# Altium footprint library 686 1xx 141 22.PcbLib: 16 footprints
Each footprint in its own frame and in the unit in brackets; x right, y up, seen from the top. Pads: shape width x height; smd on the part's side, far side on the other; paste and mask are expansions set on the pad; w line width, h text height; cw(c..) or ccw(c..) is an arc to the next point about the centre after c.
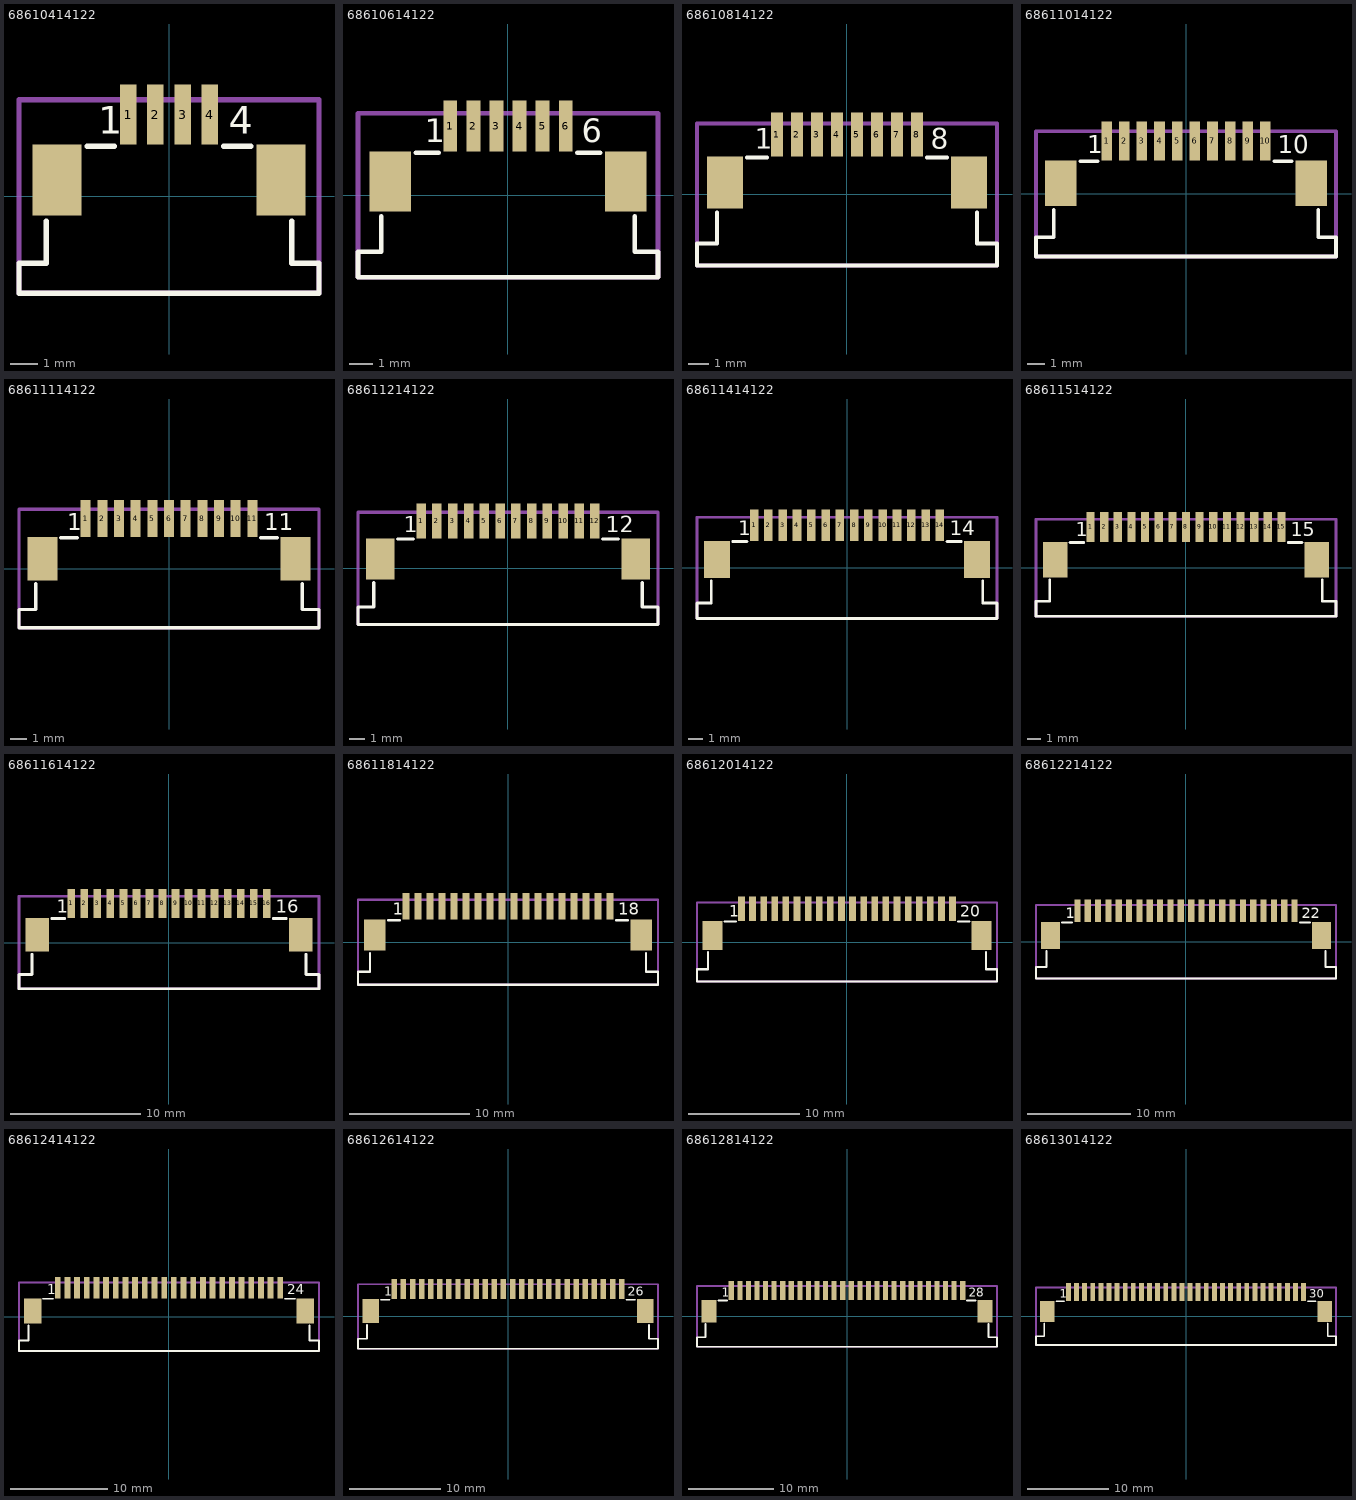
[diagram p0: the footprints below, top view; thin cyan lines are the x and y axes]

## 68610414122 [mm] "1.00 mm SMT ZIF Horizontal Top Contact, 4p"
height 2.95
pads (6):
  rect 0.6x2.2 smd: 1(-1.5,3) 2(-0.5,3) 3(0.5,3) 4(1.5,3)
  rect 1.8x2.6 smd: ""(-4.1,0.6) ""(4.1,0.6)
Top Overlay:
  lines w0.2: -4.5,-0.9 -4.5,-2.45 -5.5,-2.45 -5.5,-3.55 5.5,-3.55 5.5,-2.45 4.5,-2.45 4.5,-0.9 ; -3,1.85 -2,1.85 ; 2,1.85 3,1.85
  text "1" at -2.6,2.3 h1.02
  text "4" at 2.2,2.3 h1.02
Mechanical 13:
  lines w0.2: -5.5,-3.55 5.5,-3.55 5.5,3.55 -5.5,3.55 -5.5,-3.55
3D body "68610414122.stp": height 3.05, standoff 0.05, extent -5.5,-3.55 5.5,3.55

## 68610614122 [mm] "1.00 mm SMT ZIF Horizontal Top Contact, 6p"
height 2.95
pads (8):
  rect 0.6x2.2 smd: 1(-2.5,3) 2(-1.5,3) 3(-0.5,3) 4(0.5,3) 5(1.5,3) 6(2.5,3)
  rect 1.8x2.6 smd: ""(-5.1,0.6) ""(5.1,0.6)
Top Overlay:
  lines w0.2: -5.5,-0.9 -5.5,-2.45 -6.5,-2.45 -6.5,-3.55 6.5,-3.55 6.5,-2.45 5.5,-2.45 5.5,-0.9 ; -4,1.85 -3,1.85 ; 3,1.85 4,1.85
  text "1" at -3.6,2.3 h1.02
  text "6" at 3.2,2.3 h1.02
Mechanical 13:
  lines w0.2: -6.5,-3.55 6.5,-3.55 6.5,3.55 -6.5,3.55 -6.5,-3.55
3D body "68610614122.stp": height 3.05, standoff 0.05, extent -6.5,-3.55 6.5,3.55

## 68610814122 [mm] "1.00 mm SMT ZIF Horizontal Top Contact, 8p"
height 2.95
pads (10):
  rect 0.6x2.2 smd: 1(-3.5,3) 2(-2.5,3) 3(-1.5,3) 4(-0.5,3) 5(0.5,3) 6(1.5,3) 7(2.5,3) 8(3.5,3)
  rect 1.8x2.6 smd: ""(-6.1,0.6) ""(6.1,0.6)
Top Overlay:
  lines w0.2: -7.5,-3.55 -7.5,-2.45 -6.5,-2.45 -6.5,-0.9 ; -7.5,-3.55 7.5,-3.55 7.5,-2.45 6.5,-2.45 6.5,-0.9 ; -5,1.85 -4,1.85 ; 4,1.85 5,1.85
  text "8" at 4.2,2.3 h1.02
  text "1" at -4.6,2.3 h1.02
Mechanical 13:
  lines w0.2: -7.5,-3.55 7.5,-3.55 7.5,3.55 -7.5,3.55 -7.5,-3.55
3D body "68610814122.stp": height 3.05, standoff 0.05, extent -7.5,-3.55 7.5,3.55

## 68611014122 [mm] "1.00 mm SMT ZIF Horizontal Top Contact, 10p"
height 2.95
pads (12):
  rect 0.6x2.2 smd: 1(-4.5,3) 2(-3.5,3) 3(-2.5,3) 4(-1.5,3) 5(-0.5,3) 6(0.5,3) 7(1.5,3) 8(2.5,3) 9(3.5,3) 10(4.5,3)
  rect 1.8x2.6 smd: ""(-7.1,0.6) ""(7.1,0.6)
Top Overlay:
  lines w0.2: -7.5,-0.9 -7.5,-2.45 -8.5,-2.45 -8.5,-3.55 8.5,-3.55 8.5,-2.45 7.5,-2.45 7.5,-0.9 ; -6,1.85 -5,1.85 ; 5,1.85 6,1.85
  text "10" at 5.2,2.3 h1.02
  text "1" at -5.6,2.3 h1.02
Mechanical 13:
  lines w0.2: -8.5,-3.55 -8.5,3.55 8.5,3.55 8.5,-3.55 -8.5,-3.55
3D body "68611014122.stp": height 3.05, standoff 0.05, extent -8.5,-3.55 8.5,3.55

## 68611114122 [mm] "1.00 mm SMT ZIF Horizontal Top Contact, 11p"
height 2.95
pads (13):
  rect 0.6x2.2 smd: 1(-5,3) 2(-4,3) 3(-3,3) 4(-2,3) 5(-1,3) 6(0,3) 7(1,3) 8(2,3) 9(3,3) 10(4,3) 11(5,3)
  rect 1.8x2.6 smd: ""(-7.6,0.6) ""(7.6,0.6)
Top Overlay:
  lines w0.2: -8,-0.9 -8,-2.45 -9,-2.45 -9,-3.55 9,-3.55 9,-2.45 8,-2.45 8,-0.9 ; -6.5,1.85 -5.5,1.85 ; 5.5,1.85 6.5,1.85
  text "11" at 5.7,2.3 h1.02
  text "1" at -6.1,2.3 h1.02
Mechanical 13:
  lines w0.2: -9,-3.55 -9,3.55 9,3.55 9,-3.55 -9,-3.55
3D body "68611114122.stp": height 3.05, standoff 0.05, extent -9,-3.55 9,3.55

## 68611214122 [mm] "1.00 mm SMT ZIF Horizontal Top Contact, 12p"
height 2.95
pads (14):
  rect 0.6x2.2 smd: 1(-5.5,3) 2(-4.5,3) 3(-3.5,3) 4(-2.5,3) 5(-1.5,3) 6(-0.5,3) 7(0.5,3) 8(1.5,3) 9(2.5,3) 10(3.5,3) 11(4.5,3) 12(5.5,3)
  rect 1.8x2.6 smd: ""(-8.1,0.6) ""(8.1,0.6)
Top Overlay:
  lines w0.2: -8.5,-0.9 -8.5,-2.45 -9.5,-2.45 -9.5,-3.55 9.5,-3.55 9.5,-2.45 8.5,-2.45 8.5,-0.9 ; -7,1.85 -6,1.85 ; 6,1.85 7,1.85
  text "12" at 6.2,2.3 h1.02
  text "1" at -6.6,2.3 h1.02
Mechanical 13:
  lines w0.2: -9.5,-3.55 -9.5,3.55 9.5,3.55 9.5,-3.55 -9.5,-3.55
3D body "68611214122.stp": height 3.05, standoff 0.05, extent -9.5,-3.55 9.5,3.55

## 68611414122 [mm] "1.00 mm SMT ZIF Horizontal Top Contact, 14p"
height 2.95
pads (16):
  rect 0.6x2.2 smd: 1(-6.5,3) 2(-5.5,3) 3(-4.5,3) 4(-3.5,3) 5(-2.5,3) 6(-1.5,3) 7(-0.5,3) 8(0.5,3) 9(1.5,3) 10(2.5,3) 11(3.5,3) 12(4.5,3) 13(5.5,3) 14(6.5,3)
  rect 1.8x2.6 smd: ""(-9.1,0.6) ""(9.1,0.6)
Top Overlay:
  lines w0.2: -9.5,-0.9 -9.5,-2.45 -10.5,-2.45 -10.5,-3.55 10.5,-3.55 10.5,-2.45 9.5,-2.45 9.5,-0.9 ; -8,1.85 -7,1.85 ; 7,1.85 8,1.85
  text "14" at 7.2,2.3 h1.02
  text "1" at -7.6,2.3 h1.02
Mechanical 13:
  lines w0.2: -10.5,-3.55 -10.5,3.55 10.5,3.55 10.5,-3.55 -10.5,-3.55
3D body "68611414122.stp": height 3.05, standoff 0.05, extent -10.5,-3.55 10.5,3.55

## 68611514122 [mm] "1.00 mm SMT ZIF Horizontal Top Contact, 15p"
height 2.95
pads (17):
  rect 0.6x2.2 smd: 1(-7,3) 2(-6,3) 3(-5,3) 4(-4,3) 5(-3,3) 6(-2,3) 7(-1,3) 8(0,3) 9(1,3) 10(2,3) 11(3,3) 12(4,3) 13(5,3) 14(6,3) 15(7,3)
  rect 1.8x2.6 smd: ""(-9.6,0.6) ""(9.6,0.6)
Top Overlay:
  lines w0.2: -10,-0.9 -10,-2.45 -11,-2.45 -11,-3.55 11,-3.55 11,-2.45 10,-2.45 10,-0.9 ; -8.5,1.85 -7.5,1.85 ; 7.5,1.85 8.5,1.85
  text "1" at -8.1,2.3 h1.02
  text "15" at 7.7,2.3 h1.02
Mechanical 13:
  lines w0.2: -11,-3.55 -11,3.55 11,3.55 11,-3.55 -11,-3.55
3D body "68611514122.stp": height 3.05, standoff 0.05, extent -11,-3.55 11,3.55

## 68611614122 [mm] "1.00 mm SMT ZIF Horizontal Top Contact, 16p"
height 2.95
pads (18):
  rect 0.6x2.2 smd: 1(-7.5,3) 2(-6.5,3) 3(-5.5,3) 4(-4.5,3) 5(-3.5,3) 6(-2.5,3) 7(-1.5,3) 8(-0.5,3) 9(0.5,3) 10(1.5,3) 11(2.5,3) 12(3.5,3) 13(4.5,3) 14(5.5,3) 15(6.5,3) 16(7.5,3)
  rect 1.8x2.6 smd: ""(-10.1,0.6) ""(10.1,0.6)
Top Overlay:
  lines w0.2: -10.5,-0.9 -10.5,-2.45 -11.5,-2.45 -11.5,-3.55 11.5,-3.55 11.5,-2.45 10.5,-2.45 10.5,-0.9 ; -9,1.85 -8,1.85 ; 8,1.85 9,1.85
  text "1" at -8.6,2.3 h1.02
  text "16" at 8.2,2.3 h1.02
Mechanical 13:
  lines w0.2: -11.5,-3.55 -11.5,3.55 11.5,3.55 11.5,-3.55 -11.5,-3.55
3D body "68611614122.stp": height 3.05, standoff 0.05, extent -11.5,-3.55 11.5,3.55

## 68611814122 [mm] "1.00 mm SMT ZIF Horizontal Top Contact, 18p"
height 2.95
pads (20):
  rect 0.6x2.2 smd: 1(-8.5,3) 2(-7.5,3) 3(-6.5,3) 4(-5.5,3) 5(-4.5,3) 6(-3.5,3) 7(-2.5,3) 8(-1.5,3) 9(-0.5,3) 10(0.5,3) 11(1.5,3) 12(2.5,3) 13(3.5,3) 14(4.5,3) 15(5.5,3) 16(6.5,3) 17(7.5,3) 18(8.5,3)
  rect 1.8x2.6 smd: ""(-11.1,0.6) ""(11.1,0.6)
Top Overlay:
  lines w0.2: -12.5,-3.55 -12.5,-2.45 -11.5,-2.45 -11.5,-0.9 ; -12.5,-3.55 12.5,-3.55 12.5,-2.45 11.5,-2.45 11.5,-0.9 ; -10,1.85 -9,1.85 ; 9,1.85 10,1.85
  text "18" at 9.2,2.3 h1.02
  text "1" at -9.6,2.3 h1.02
Mechanical 13:
  lines w0.2: -12.5,-3.55 12.5,-3.55 12.5,3.55 -12.5,3.55 -12.5,-3.55
3D body "68611814122.stp": height 3.05, standoff 0.05, extent -12.5,-3.55 12.5,3.55

## 68612014122 [mm] "1.00 mm SMT ZIF Horizontal Top Contact, 20p"
height 2.95
pads (22):
  rect 0.6x2.2 smd: 1(-9.5,3) 2(-8.5,3) 3(-7.5,3) 4(-6.5,3) 5(-5.5,3) 6(-4.5,3) 7(-3.5,3) 8(-2.5,3) 9(-1.5,3) 10(-0.5,3) 11(0.5,3) 12(1.5,3) 13(2.5,3) 14(3.5,3) 15(4.5,3) 16(5.5,3) 17(6.5,3) 18(7.5,3) 19(8.5,3) 20(9.5,3)
  rect 1.8x2.6 smd: ""(-12.1,0.6) ""(12.1,0.6)
Top Overlay:
  lines w0.2: -12.5,-0.9 -12.5,-2.45 -13.5,-2.45 -13.5,-3.55 13.5,-3.55 13.5,-2.45 12.5,-2.45 12.5,-0.9 ; -11,1.85 -10,1.85 ; 10,1.85 11,1.85
  text "1" at -10.6,2.3 h1.02
  text "20" at 10.2,2.3 h1.02
Mechanical 13:
  lines w0.2: -13.5,-3.55 -13.5,3.55 13.5,3.55 13.5,-3.55 -13.5,-3.55
3D body "68612014122.stp": height 3.05, standoff 0.05, extent -13.5,-3.55 13.5,3.55

## 68612214122 [mm] "1.00 mm SMT ZIF Horizontal Top Contact, 22p"
height 2.95
pads (24):
  rect 0.6x2.2 smd: 1(-10.5,3) 2(-9.5,3) 3(-8.5,3) 4(-7.5,3) 5(-6.5,3) 6(-5.5,3) 7(-4.5,3) 8(-3.5,3) 9(-2.5,3) 10(-1.5,3) 11(-0.5,3) 12(0.5,3) 13(1.5,3) 14(2.5,3) 15(3.5,3) 16(4.5,3) 17(5.5,3) 18(6.5,3) 19(7.5,3) 20(8.5,3) 21(9.5,3) 22(10.5,3)
  rect 1.8x2.6 smd: ""(-13.1,0.6) ""(13.1,0.6)
Top Overlay:
  lines w0.2: -13.5,-0.9 -13.5,-2.45 -14.5,-2.45 -14.5,-3.55 14.5,-3.55 14.5,-2.45 13.5,-2.45 13.5,-0.9 ; -12,1.85 -11,1.85 ; 11,1.85 12,1.85
  text "22" at 11.2,2.3 h1.02
  text "1" at -11.6,2.3 h1.02
Mechanical 13:
  lines w0.2: -14.5,-3.55 14.5,-3.55 14.5,3.55 -14.5,3.55 -14.5,-3.55
3D body "68612214122.stp": height 3.05, standoff 0.05, extent -14.5,-3.55 14.5,3.55

## 68612414122 [mm] "1.00 mm SMT ZIF Horizontal Top Contact, 24p"
height 2.95
pads (26):
  rect 0.6x2.2 smd: 1(-11.5,3) 2(-10.5,3) 3(-9.5,3) 4(-8.5,3) 5(-7.5,3) 6(-6.5,3) 7(-5.5,3) 8(-4.5,3) 9(-3.5,3) 10(-2.5,3) 11(-1.5,3) 12(-0.5,3) 13(0.5,3) 14(1.5,3) 15(2.5,3) 16(3.5,3) 17(4.5,3) 18(5.5,3) 19(6.5,3) 20(7.5,3) 21(8.5,3) 22(9.5,3) 23(10.5,3) 24(11.5,3)
  rect 1.8x2.6 smd: ""(-14.1,0.6) ""(14.1,0.6)
Top Overlay:
  lines w0.2: -14.5,-0.9 -14.5,-2.45 -15.5,-2.45 -15.5,-3.55 15.5,-3.55 15.5,-2.45 14.5,-2.45 14.5,-0.9 ; -13,1.85 -12,1.85 ; 12,1.85 13,1.85
  text "24" at 12.2,2.3 h1.02
  text "1" at -12.6,2.3 h1.02
Mechanical 13:
  lines w0.2: -15.5,-3.55 -15.5,3.55 15.5,3.55 15.5,-3.55 -15.5,-3.55
3D body "68612414122.stp": height 3.05, standoff 0.05, extent -15.5,-3.55 15.5,3.55

## 68612614122 [mm] "1.00 mm SMT ZIF Horizontal Top Contact, 26p"
height 2.95
pads (28):
  rect 0.6x2.2 smd: 1(-12.5,3) 2(-11.5,3) 3(-10.5,3) 4(-9.5,3) 5(-8.5,3) 6(-7.5,3) 7(-6.5,3) 8(-5.5,3) 9(-4.5,3) 10(-3.5,3) 11(-2.5,3) 12(-1.5,3) 13(-0.5,3) 14(0.5,3) 15(1.5,3) 16(2.5,3) 17(3.5,3) 18(4.5,3) 19(5.5,3) 20(6.5,3) 21(7.5,3) 22(8.5,3) 23(9.5,3) 24(10.5,3) 25(11.5,3) 26(12.5,3)
  rect 1.8x2.6 smd: ""(-15.1,0.6) ""(15.1,0.6)
Top Overlay:
  lines w0.2: -15.5,-0.9 -15.5,-2.45 -16.5,-2.45 -16.5,-3.55 16.5,-3.55 16.5,-2.45 15.5,-2.45 15.5,-0.9 ; -14,1.85 -13,1.85 ; 13,1.85 14,1.85
  text "1" at -13.6,2.3 h1.02
  text "26" at 13.2,2.3 h1.02
Mechanical 13:
  lines w0.2: -16.5,-3.55 16.5,-3.55 16.5,3.55 -16.5,3.55 -16.5,-3.55
3D body "68612614122.stp": height 3.05, standoff 0.05, extent -16.5,-3.55 16.5,3.55

## 68612814122 [mm] "1.00 mm SMT ZIF Horizontal Top Contact, 28p"
height 2.95
pads (30):
  rect 0.6x2.2 smd: 1(-13.5,3) 2(-12.5,3) 3(-11.5,3) 4(-10.5,3) 5(-9.5,3) 6(-8.5,3) 7(-7.5,3) 8(-6.5,3) 9(-5.5,3) 10(-4.5,3) 11(-3.5,3) 12(-2.5,3) 13(-1.5,3) 14(-0.5,3) 15(0.5,3) 16(1.5,3) 17(2.5,3) 18(3.5,3) 19(4.5,3) 20(5.5,3) 21(6.5,3) 22(7.5,3) 23(8.5,3) 24(9.5,3) 25(10.5,3) 26(11.5,3) 27(12.5,3) 28(13.5,3)
  rect 1.8x2.6 smd: ""(-16.1,0.6) ""(16.1,0.6)
Top Overlay:
  lines w0.2: -16.5,-0.9 -16.5,-2.45 -17.5,-2.45 -17.5,-3.55 17.5,-3.55 17.5,-2.45 16.5,-2.45 16.5,-0.9 ; -15,1.85 -14,1.85 ; 14,1.85 15,1.85
  text "28" at 14.2,2.3 h1.02
  text "1" at -14.6,2.3 h1.02
Mechanical 13:
  lines w0.2: -17.5,-3.55 -17.5,3.55 17.5,3.55 17.5,-3.55 -17.5,-3.55
3D body "68612814122.stp": height 3.05, standoff 0.05, extent -17.5,-3.55 17.5,3.55

## 68613014122 [mm] "1.00 mm SMT ZIF Horizontal Top Contact, 30p"
height 2.95
pads (32):
  rect 0.6x2.2 smd: 1(-14.5,3) 2(-13.5,3) 3(-12.5,3) 4(-11.5,3) 5(-10.5,3) 6(-9.5,3) 7(-8.5,3) 8(-7.5,3) 9(-6.5,3) 10(-5.5,3) 11(-4.5,3) 12(-3.5,3) 13(-2.5,3) 14(-1.5,3) 15(-0.5,3) 16(0.5,3) 17(1.5,3) 18(2.5,3) 19(3.5,3) 20(4.5,3) 21(5.5,3) 22(6.5,3) 23(7.5,3) 24(8.5,3) 25(9.5,3) 26(10.5,3) 27(11.5,3) 28(12.5,3) 29(13.5,3) 30(14.5,3)
  rect 1.8x2.6 smd: ""(-17.1,0.6) ""(17.1,0.6)
Top Overlay:
  lines w0.2: -17.5,-0.9 -17.5,-2.45 -18.5,-2.45 -18.5,-3.55 18.5,-3.55 18.5,-2.45 17.5,-2.45 17.5,-0.9 ; -16,1.85 -15,1.85 ; 15,1.85 16,1.85
  text "30" at 15.2,2.3 h1.02
  text "1" at -15.6,2.3 h1.02
Mechanical 13:
  lines w0.2: -18.5,-3.55 -18.5,3.55 18.5,3.55 18.5,-3.55 -18.5,-3.55
3D body "68613014122.stp": height 3.05, standoff 0.05, extent -18.5,-3.55 18.5,3.55